# Altium footprint library pedals-microcontrollers.PCBLIB: 5 footprints
Each footprint in its own frame and in the unit in brackets; x right, y up, seen from the top. Pads: shape width x height; smd on the part's side, far side on the other; paste and mask are expansions set on the pad; w line width, h text height; cw(c..) or ccw(c..) is an arc to the next point about the centre after c.
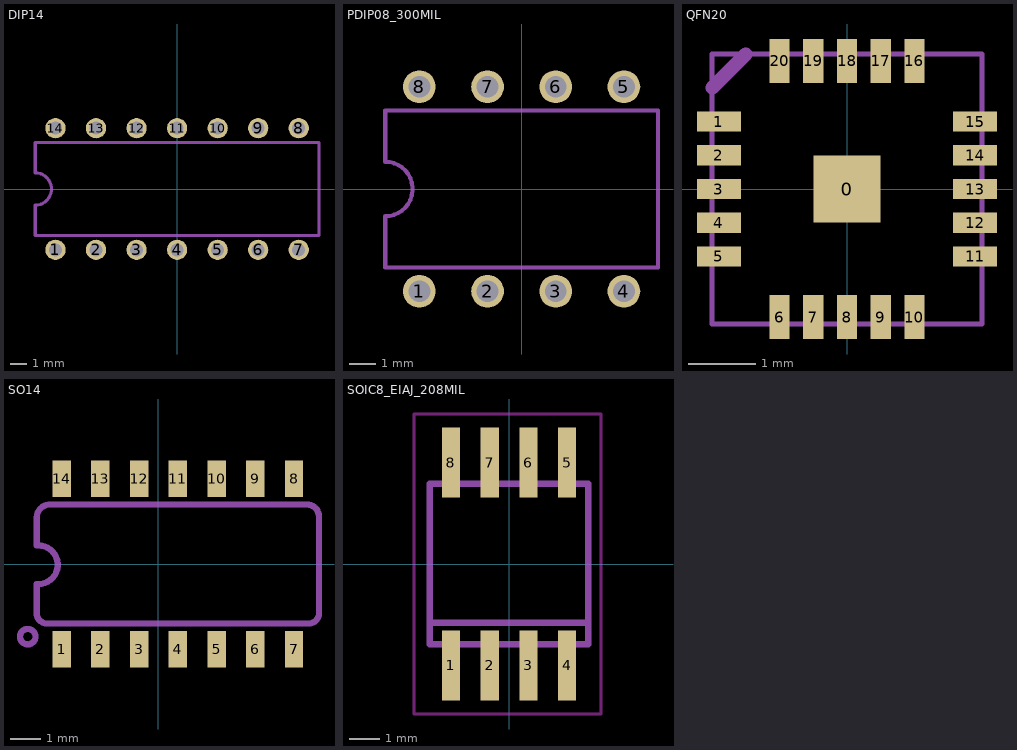
[diagram p0: the footprints below, top view; thin cyan lines are the x and y axes]

## DIP14 [mil]
pads (14):
  round 50 hole 32: 1(-300,-150) 2(-200,-150) 3(-100,-150) 4(0,-150) 5(100,-150) 6(200,-150) 7(300,-150) 8(300,150) 9(200,150) 10(100,150) 11(0,150) 12(-100,150) 13(-200,150) 14(-300,150)
Mechanical 2:
  lines w8: -350,-115 350,-115 350,115 -350,115 -350,40 cw(c-350,0) -350,-40 -350,-115

## PDIP08_300MIL [mil]
pads (8):
  round 48 hole 32: 1(-150,-150) 2(-50,-150) 3(50,-150) 4(150,-150) 5(150,150) 6(50,150) 7(-50,150) 8(-150,150)
Mechanical 2:
  lines w6: -200,-115 200,-115 200,115 -200,115 -200,40 cw(c-200,0) -200,-40 -200,-115

## QFN20 [mm]
pads (21):
  rect 1x1 smd paste-0.5: 0(0,0)
  rect 0.65x0.3 smd paste-0.325: 1(-1.9,1) 2(-1.9,0.5) 3(-1.9,0) 4(-1.9,-0.5) 5(-1.9,-1) 11(1.9,-1) 12(1.9,-0.5) 13(1.9,0) 14(1.9,0.5) 15(1.9,1)
  rect 0.3x0.65 smd paste-0.325: 6(-1,-1.9) 7(-0.5,-1.9) 8(0,-1.9) 9(0.5,-1.9) 10(1,-1.9) 16(1,1.9) 17(0.5,1.9) 18(0,1.9) 19(-0.5,1.9) 20(-1,1.9)
Top Paste:
  rectangle: -0.25,-0.25 0.25,0.25
  rectangle: -2.095,0.902 -1.613,1.105
  rectangle: -2.095,0.394 -1.613,0.597
  rectangle: -2.095,-0.102 -1.613,0.102
  rectangle: -2.095,-0.597 -1.613,-0.394
  rectangle: -2.095,-1.105 -1.613,-0.902
  rectangle: 1.613,0.902 2.095,1.105
  rectangle: 1.613,0.394 2.095,0.597
  rectangle: 1.613,-0.102 2.095,0.102
  rectangle: 1.613,-0.597 2.095,-0.394
  rectangle: 1.613,-1.105 2.095,-0.902
  region: -0.902,1.613 -0.902,2.095 -1.105,2.095 -1.105,1.613
  region: -0.394,1.613 -0.394,2.095 -0.597,2.095 -0.597,1.613
  region: 0.102,1.613 0.102,2.095 -0.102,2.095 -0.102,1.613
  region: 0.597,1.613 0.597,2.095 0.394,2.095 0.394,1.613
  region: 1.105,1.613 1.105,2.095 0.902,2.095 0.902,1.613
  region: -0.902,-2.095 -0.902,-1.613 -1.105,-1.613 -1.105,-2.095
  region: -0.394,-2.095 -0.394,-1.613 -0.597,-1.613 -0.597,-2.095
  region: 0.102,-2.095 0.102,-1.613 -0.102,-1.613 -0.102,-2.095
  region: 0.597,-2.095 0.597,-1.613 0.394,-1.613 0.394,-2.095
  region: 1.105,-2.095 1.105,-1.613 0.902,-1.613 0.902,-2.095
Mechanical 2:
  lines w0.203: -2,1.5 -1.5,2
Mechanical 18:
  lines w0.076: -2,-2 2,-2 2,2 -2,2 -2,-2

## SO14 [mil]
pads (14):
  rect 23.62x47.24 smd: 1(-125,-110.24) 2(-75,-110.24) 3(-25,-110.24) 4(25,-110.24) 5(75,-110.24) 6(125,-110.24) 7(175,-110.24) 8(175,110.24) 9(125,110.24) 10(75,110.24) 11(25,110.24) 12(-25,110.24) 13(-75,110.24) 14(-125,110.24)
Mechanical 2:
  circle w8: c-168.75,-93.75 r10
  lines w8: -157,-26 -157,-65.56 ccw(c-143.97,-63.6) -142,-76.63 195.94,-76.63 ccw(c193.97,-63.6) 207,-61.63 207,61.63 ccw(c192,61.63) 192,76.63 -142,76.63 ccw(c-140.03,59.66) -157,57.69 ; -157,24 -157,57.19 ; -155,-26 ccw(c-155,-1) -155,24
Mechanical 18:
  rectangle: -135,-130 -115,-89.5
  rectangle: -85,-130 -65,-89.5
  rectangle: -35,-130 -15,-89.5
  rectangle: 15,-130 35,-89.5
  rectangle: 65,-130 85,-89.5
  rectangle: 115,-130 135,-89.5
  rectangle: 165,-130 185,-89.5
  rectangle: -85,90 -65,130
  rectangle: -35,90 -15,130
  rectangle: 15,90 35,130
  rectangle: 65,90 85,130
  rectangle: 115,90 135,130
  rectangle: 165,90 185,130
  rectangle: -135,90 -115,130

## SOIC8_EIAJ_208MIL [mil]
pads (8):
  rect 23.62x90 smd: 1(-75,-131.1) 2(-25,-131.1) 3(25,-131.1) 4(75,-131.1) 5(75,131.1) 6(25,131.1) 7(-25,131.1) 8(-75,131.1)
Keep-Out Layer:
  lines w4: -122.69,-193.75 118.75,-193.75 118.75,193.75 -122.69,193.75 -122.69,-193.75
Mechanical 2:
  rectangle: -84.65,-163.39 -65.35,-103.55
  rectangle: -34.65,-163.39 -15.35,-103.55
  rectangle: 15.35,-163.39 34.65,-103.55
  rectangle: 65.35,-163.39 84.65,-103.55
  rectangle: 65.35,103.55 84.65,163.39
  rectangle: 15.35,103.55 34.65,163.39
  rectangle: -34.65,103.55 -15.35,163.39
  rectangle: -84.65,103.55 -65.35,163.39
  lines w8: -102.36,-103.54 -102.36,-75.98 ; -102.36,103.54 -102.36,-75.98 ; 102.36,-103.54 102.36,-75.98 ; 102.36,103.54 102.36,-75.98 ; -102.36,-75.98 102.36,-75.98
Mechanical 18:
  lines w8: -102.36,-103.54 102.36,-103.54 ; -102.36,103.54 102.36,103.54